# EAGLE library part STM32G071GBU (library pimoroni-ics)
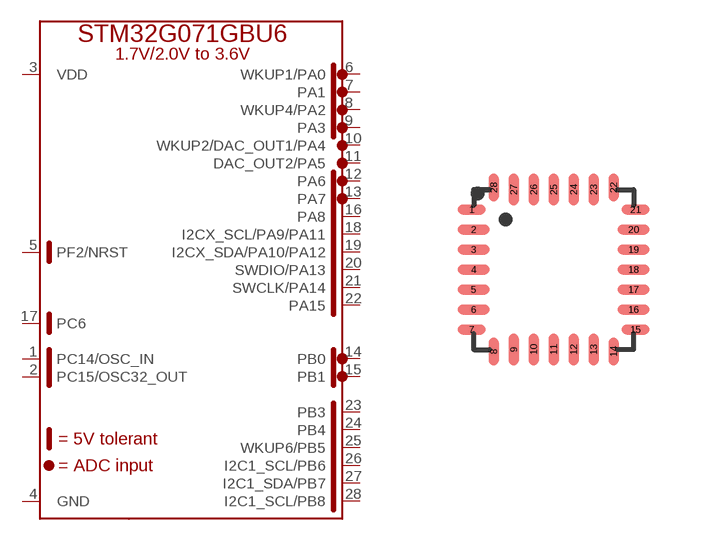
[diagram p105: symbol with the pads of UQFN-28-4X4-0.5MM; footprint UQFN-28-4X4-0.5MM]

Designator prefix U

## STM32G071GBU  [UQFN-28-4X4-0.5MM]
1  PC14/OSC_IN
2  PC15/OSC32_OUT
3  VDD
4  GND
5  PF2/NRST
6  WKUP1/PA0
7  PA1
8  WKUP4/PA2
9  PA3
10  WKUP2/DAC_OUT1/PA4
11  DAC_OUT2/PA5
12  PA6
13  PA7
14  PB0
15  PB1
16  PA8
17  PC6
18  I2CX_SCL/PA9/PA11
19  I2CX_SDA/PA10/PA12
20  SWDIO/PA13
21  SWCLK/PA14
22  PA15
23  PB3
24  PB4
25  WKUP6/PB5
26  I2C1_SCL/PB6
27  I2C1_SDA/PB7
28  I2C1_SCL/PB8

## Footprint UQFN-28-4X4-0.5MM (pad centres in mm)
smd 0.7 x 0.25: 1 -2.05,1.5; 7 -2.05,-1.5; 15 2.05,-1.5; 21 2.05,1.5
smd 0.8 x 0.25: 2 -2,1; 3 -2,0.5; 4 -2,0; 5 -2,-0.5; 6 -2,-1; 16 2,-1; 17 2,-0.5; 18 2,0; 19 2,0.5; 20 2,1
smd 0.25 x 0.7: 8 -1.5,-2.05; 14 1.5,-2.05; 22 1.5,2.05; 28 -1.5,2.05
smd 0.25 x 0.8: 9 -1,-2; 10 -0.5,-2; 11 0,-2; 12 0.5,-2; 13 1,-2; 23 1,2; 24 0.5,2; 25 0,2; 26 -0.5,2; 27 -1,2